# EAGLE library part BUCHSENLEISTE-10 (library iceberg20)
10 pin Connector, 2x5, powerDatenblatt: Link <https://www.mouser.de/datasheet/2/276/0430451012_PCB_HEADERS-142935.pdf>
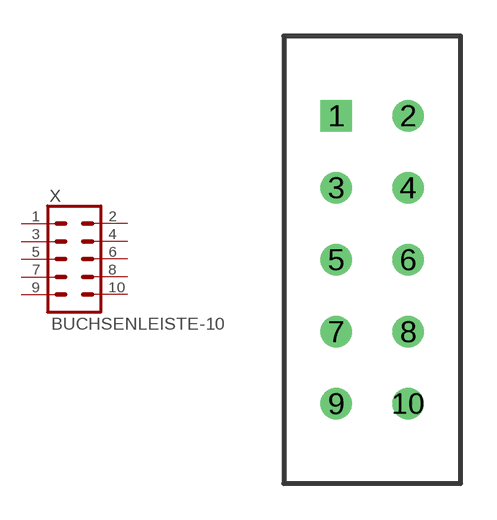
[diagram p9: symbol with the pads of 2X5; footprint 2X5]

Designator prefix X

## BUCHSENLEISTE-10 (BESTAND: 0; HERSTELLER: Molex; HERSTELLER-NR: 43045-1012; SUPPLIER: Mouser; SUPPLIER-NR: 538-43045-1012)  [2X5]
1  1  pas
2  2  pas
3  3  pas
4  4  pas
5  5  pas
6  6  pas
7  7  pas
8  8  pas
9  9  pas
10  10  pas

## Footprint 2X5 (pad centres in mm)
drill 0.8 square: 1 -3,3
drill 0.8: 2 0,3; 3 -3,0; 4 0,0; 5 -3,-3; 6 0,-3; 7 -3,-6; 8 0,-6; 9 -3,-9; 10 0,-9